# EAGLE library part ADV9889B (library sjg-adv)
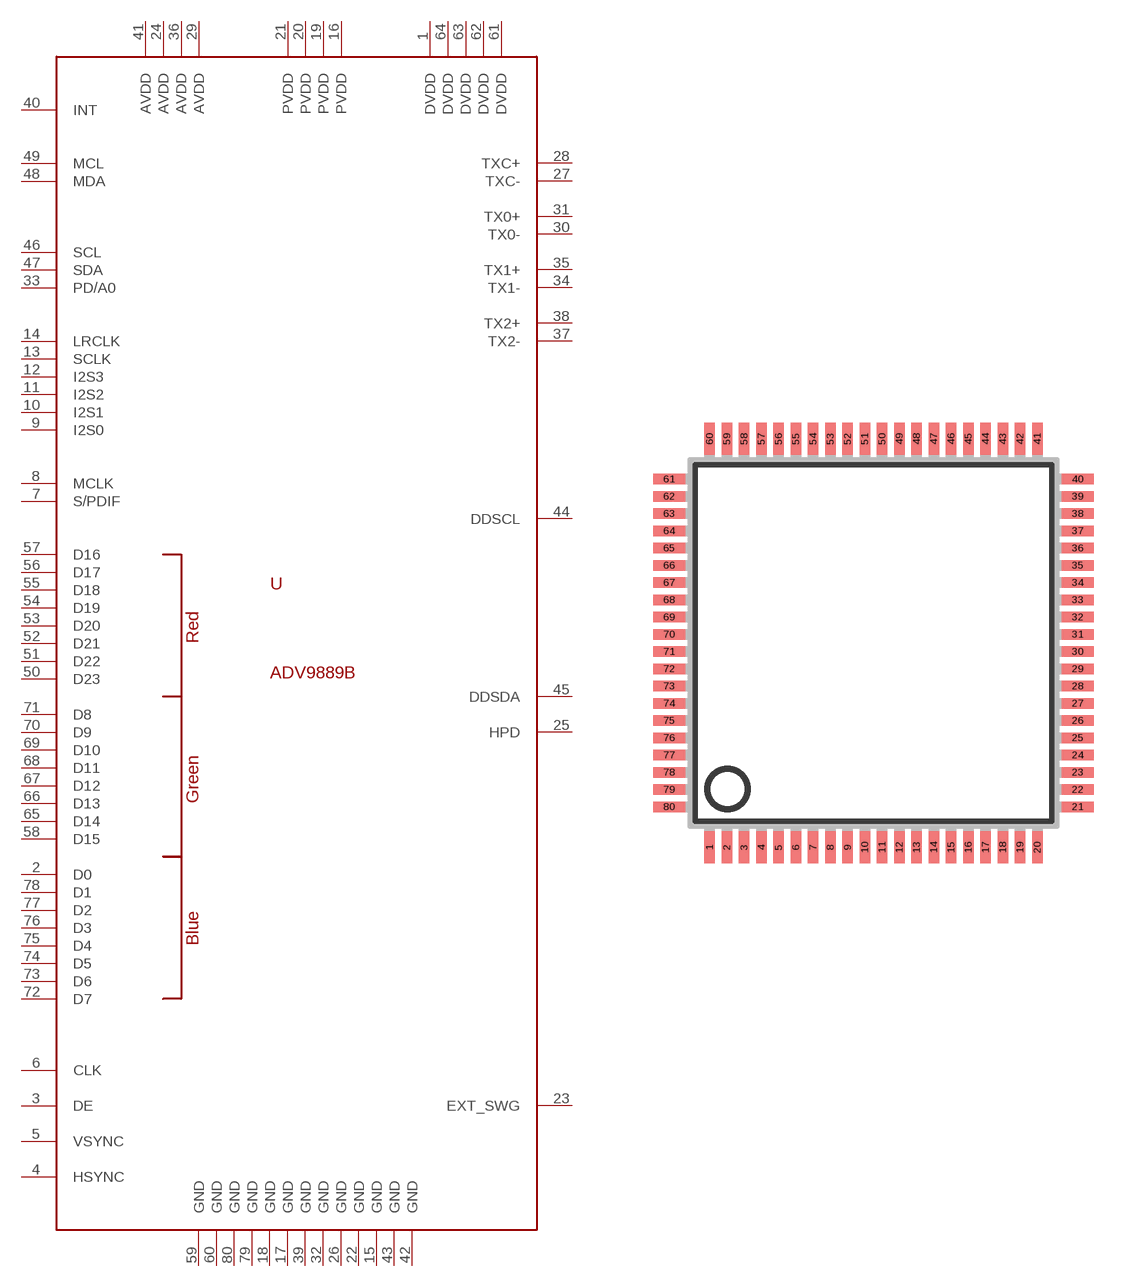
[diagram p3: symbol with the pads of LQFP80; footprint LQFP80]

Designator prefix -

## ADV9889B  [LQFP80]
1  DVDD
2  D0
3  DE
4  HSYNC
5  VSYNC
6  CLK
7  S/PDIF
8  MCLK
9  I2S0
10  I2S1
11  I2S2
12  I2S3
13  SCLK
14  LRCLK
15  GND
16  PVDD
17  GND
18  GND
19  PVDD
20  PVDD
21  PVDD
22  GND
23  EXT_SWG
24  AVDD
25  HPD
26  GND
27  TXC-
28  TXC+
29  AVDD
30  TX0-
31  TX0+
32  GND
33  PD/A0
34  TX1-
35  TX1+
36  AVDD
37  TX2-
38  TX2+
39  GND
40  INT
41  AVDD
42  GND
43  GND
44  DDSCL
45  DDSDA
46  SCL
47  SDA
48  MDA
49  MCL
50  D23
51  D22
52  D21
53  D20
54  D19
55  D18
56  D17
57  D16
58  D15
59  GND
60  GND
61  DVDD
62  DVDD
63  DVDD
64  DVDD
65  D14
66  D13
67  D12
68  D11
69  D10
70  D9
71  D8
72  D7
73  D6
74  D5
75  D4
76  D3
77  D2
78  D1
79  GND
80  GND

## Footprint LQFP80 (pad centres in mm)
80 Lead LQFP_ED (SQ-80) (ST-80) www.analog.com AD9852_b.pdf
smd 0.4 x 1.2: 1 -6.175,-7.7; 2 -5.525,-7.7; 3 -4.875,-7.7; 4 -4.225,-7.7; 5 -3.575,-7.7; 6 -2.925,-7.7; 7 -2.275,-7.7; 8 -1.625,-7.7; 9 -0.975,-7.7; 10 -0.325,-7.7; 11 0.325,-7.7; 12 0.975,-7.7; 13 1.625,-7.7; 14 2.275,-7.7; 15 2.925,-7.7; 16 3.575,-7.7; 17 4.225,-7.7; 18 4.875,-7.7; 19 5.525,-7.7; 20 6.175,-7.7; 41 6.175,7.7; 42 5.525,7.7; 43 4.875,7.7; 44 4.225,7.7; 45 3.575,7.7; 46 2.925,7.7; 47 2.275,7.7; 48 1.625,7.7; 49 0.975,7.7; 50 0.325,7.7; 51 -0.325,7.7; 52 -0.975,7.7; 53 -1.625,7.7; 54 -2.275,7.7; 55 -2.925,7.7; 56 -3.575,7.7; 57 -4.225,7.7; 58 -4.875,7.7; 59 -5.525,7.7; 60 -6.175,7.7
smd 1.2 x 0.4: 21 7.7,-6.175; 22 7.7,-5.525; 23 7.7,-4.875; 24 7.7,-4.225; 25 7.7,-3.575; 26 7.7,-2.925; 27 7.7,-2.275; 28 7.7,-1.625; 29 7.7,-0.975; 30 7.7,-0.325; 31 7.7,0.325; 32 7.7,0.975; 33 7.7,1.625; 34 7.7,2.275; 35 7.7,2.925; 36 7.7,3.575; 37 7.7,4.225; 38 7.7,4.875; 39 7.7,5.525; 40 7.7,6.175; 61 -7.7,6.175; 62 -7.7,5.525; 63 -7.7,4.875; 64 -7.7,4.225; 65 -7.7,3.575; 66 -7.7,2.925; 67 -7.7,2.275; 68 -7.7,1.625; 69 -7.7,0.975; 70 -7.7,0.325; 71 -7.7,-0.325; 72 -7.7,-0.975; 73 -7.7,-1.625; 74 -7.7,-2.275; 75 -7.7,-2.925; 76 -7.7,-3.575; 77 -7.7,-4.225; 78 -7.7,-4.875; 79 -7.7,-5.525; 80 -7.7,-6.175